# Altium footprint library SparkFun-RF.PCBLIB: 87 footprints (part 6 of 6)
Each footprint in its own frame and in the unit in brackets; x right, y up, seen from the top. Pads: shape width x height; smd on the part's side, far side on the other; paste and mask are expansions set on the pad; w line width, h text height; cw(c..) or ccw(c..) is an arc to the next point about the centre after c.
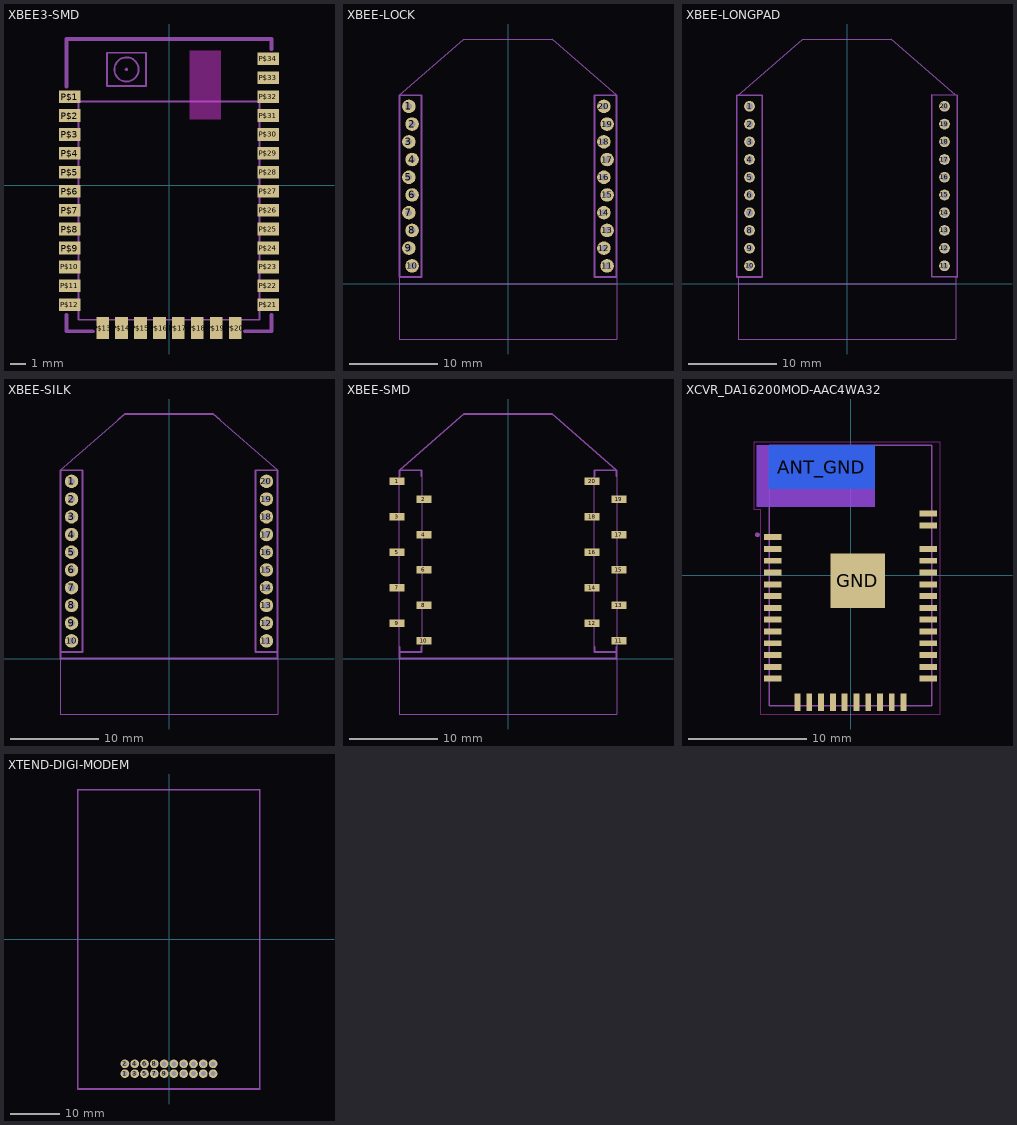
[diagram p5: the footprints below, top view; thin cyan lines are the x and y axes]

## XBEE3-SMD [mil]
pads (34):
  rect 57x33 smd paste+0: P$1(-258,230.2) P$2(-258,181) P$3(-258,131.8) P$4(-258,82.6) P$5(-258,33.4) P$6(-258,-15.8) P$7(-258,-65) P$8(-258,-114.2) P$9(-258,-163.4) P$10(-258,-212.6) P$11(-258,-261.8) P$12(-258,-311) P$21(258,-311) P$22(258,-261.8) P$23(258,-212.6) P$24(258,-163.4) P$25(258,-114.2) P$26(258,-65) P$27(258,-15.8) P$28(258,33.4) P$29(258,82.6) P$30(258,131.8) P$31(258,181) P$32(258,230.2) P$33(258,279.4) P$34(258,328.6)
  rect 33x57 smd paste+0: P$13(-172.5,-371.5) P$14(-123.3,-371.5) P$15(-74.1,-371.5) P$16(-24.9,-371.5) P$17(24.3,-371.5) P$18(73.5,-371.5) P$19(122.7,-371.5) P$20(171.9,-371.5)
Top:
  text "RF Test Points" at 105,180 h24.8
Top keep-out:
  region: 54.5,171.5 54.5,349.5 134.5,349.5 134.5,171.5
Top Paste:
  region: -285,217 -285,243.4 -236.63,243.4 -236.63,217
  region: -285,167.8 -285,194.2 -236.63,194.2 -236.63,167.8
  region: -285,118.6 -285,145 -236.63,145 -236.63,118.6
  region: -285,69.4 -285,95.8 -236.63,95.8 -236.63,69.4
  region: -285,20.2 -285,46.6 -236.63,46.6 -236.63,20.2
  region: -285,-29 -285,-2.6 -236.63,-2.6 -236.63,-29
  region: -285,-78.2 -285,-51.8 -236.63,-51.8 -236.63,-78.2
  region: -285,-127.4 -285,-101 -236.63,-101 -236.63,-127.4
  region: -285,-176.6 -285,-150.2 -236.63,-150.2 -236.63,-176.6
  region: -285,-225.8 -285,-199.4 -236.63,-199.4 -236.63,-225.8
  region: -285,-275 -285,-248.6 -236.63,-248.6 -236.63,-275
  region: -285,-324.2 -285,-297.8 -236.63,-297.8 -236.63,-324.2
  region: 233.81,315.4 233.81,341.8 282.19,341.8 282.19,315.4
  region: 233.81,266.2 233.81,292.6 282.19,292.6 282.19,266.2
  region: 233.81,217 233.81,243.4 282.19,243.4 282.19,217
  region: 233.81,167.8 233.81,194.2 282.19,194.2 282.19,167.8
  region: 233.81,118.6 233.81,145 282.19,145 282.19,118.6
  region: 233.81,69.4 233.81,95.8 282.19,95.8 282.19,69.4
  region: 233.81,20.2 233.81,46.6 282.19,46.6 282.19,20.2
  region: 233.81,-29 233.81,-2.6 282.19,-2.6 282.19,-29
  region: 233.81,-78.2 233.81,-51.8 282.19,-51.8 282.19,-78.2
  region: 233.81,-127.4 233.81,-101 282.19,-101 282.19,-127.4
  region: 233.81,-176.6 233.81,-150.2 282.19,-150.2 282.19,-176.6
  region: 233.81,-225.8 233.81,-199.4 282.19,-199.4 282.19,-225.8
  region: 233.81,-275 233.81,-248.6 282.19,-248.6 282.19,-275
  region: 233.81,-324.2 233.81,-297.8 282.19,-297.8 282.19,-324.2
  region: -185.7,-395.69 -185.7,-347.31 -159.3,-347.31 -159.3,-395.69
  region: -136.5,-395.69 -136.5,-347.31 -110.1,-347.31 -110.1,-395.69
  region: -87.3,-395.69 -87.3,-347.31 -60.9,-347.31 -60.9,-395.69
  region: -38.1,-395.69 -38.1,-347.31 -11.7,-347.31 -11.7,-395.69
  region: 11.1,-395.69 11.1,-347.31 37.5,-347.31 37.5,-395.69
  region: 60.3,-395.69 60.3,-347.31 86.7,-347.31 86.7,-395.69
  region: 109.5,-395.69 109.5,-347.31 135.9,-347.31 135.9,-395.69
  region: 158.7,-395.69 158.7,-347.31 185.1,-347.31 185.1,-395.69
tDocu:
  circle w5: c-110.59,300.83 r31.5
  region: -110.59,296.89 -111.37,296.89 -112.82,297.49 -113.93,298.6 -114.53,300.05 -114.53,300.83 -114.53,301.61 -113.93,303.06 -112.82,304.16 -111.37,304.76 -110.59,304.76 -109.81,304.76 -108.36,304.16 -107.25,303.06 -106.65,301.61 -106.65,300.83 -106.65,300.05 -107.25,298.6 -108.36,297.49 -109.81,296.89 -110.59,296.89
  lines w5: -235,-350 235,-350 235,218 -235,218 -235,-350 ; -161.18,257.32 -60,257.32 -60,344.33 -161.18,344.33 -161.18,257.32
tPlace:
  lines w10: -266.5,-337 -266.5,-380 -198,-380 ; -266.5,255.8 -266.5,380 266.5,380 266.5,354 ; 198,-380 266.5,-380 266.5,-337

## XBEE-LOCK [mil]
pads (20):
  round 60 hole 29: 1(-440.07,787.4) 2(-426.07,708.66) 3(-440.07,629.92) 4(-426.07,551.18) 5(-440.07,472.44) 6(-426.07,393.7) 7(-440.07,314.96) 8(-426.07,236.22) 9(-440.07,157.48) 10(-426.07,78.74) 11(440.07,78.74) 12(426.07,157.48) 13(440.07,236.22) 14(426.07,314.96) 15(440.07,393.7) 16(426.07,472.44) 17(440.07,551.18) 18(426.07,629.92) 19(440.07,708.66) 20(426.07,787.4)
tDocu:
  region: -437,68 -437,88 -429,88 -429,68
  region: -437,147 -437,167 -429,167 -429,147
  region: -437,225 -437,245 -429,245 -429,225
  region: -437,304 -437,324 -429,324 -429,304
  region: -437,383 -437,403 -429,403 -429,383
  region: -437,463 -437,483 -429,483 -429,463
  region: -437,541 -437,561 -429,561 -429,541
  region: -437,619 -437,639 -429,639 -429,619
  region: -437,698 -437,718 -429,718 -429,698
  region: -437,777 -437,797 -429,797 -429,777
  region: 429,68 429,88 437,88 437,68
  region: 429,147 429,167 437,167 437,147
  region: 429,225 429,245 437,245 437,225
  region: 429,304 429,324 437,324 437,304
  region: 429,383 429,403 437,403 437,383
  region: 429,463 429,483 437,483 437,463
  region: 429,541 429,561 437,561 437,541
  region: 429,619 429,639 437,639 437,619
  region: 429,698 429,718 437,718 437,698
  region: 429,777 429,797 437,797 437,777
  lines w5: -482.28,29.53 -482.28,0 ; -482.28,836.61 -196.85,1086.61 196.85,1086.61 482.28,836.61 ; 482.28,29.53 482.28,0 ; -482.28,0 482.28,0 ; -482.28,0 -482.28,-246.06 482.28,-246.06 482.28,0
tPlace:
  lines w8: -482.28,29.53 -482.28,836.61 -383.86,836.61 -383.86,29.53 -482.28,29.53 ; 383.86,29.53 482.28,29.53 482.28,836.61 383.86,836.61 383.86,29.53
  text "1" at -374.02,787.4 h34

## XBEE-LONGPAD [mil]
pads (20):
  round 47.5 hole 31.5: 1(-433.07,787.4) 2(-433.07,708.66) 3(-433.07,629.92) 4(-433.07,551.18) 5(-433.07,472.44) 6(-433.07,393.7) 7(-433.07,314.96) 8(-433.07,236.22) 9(-433.07,157.48) 10(-433.07,78.74) 11(433.07,78.74) 12(433.07,157.48) 13(433.07,236.22) 14(433.07,314.96) 15(433.07,393.7) 16(433.07,472.44) 17(433.07,551.18) 18(433.07,629.92) 19(433.07,708.66) 20(433.07,787.4)
tDocu:
  lines w5: -482.28,29.53 -482.28,0 ; -482.28,836.61 -196.85,1086.61 196.85,1086.61 482.28,836.61 ; 482.28,29.53 482.28,0 ; -482.28,0 482.28,0 ; -482.28,0 -482.28,-246.06 482.28,-246.06 482.28,0
tPlace:
  lines w8: -489.78,29.53 -489.78,836.61 -376.36,836.61 -376.36,29.53 -489.78,29.53 ; 376.36,32.03 489.78,29.53 489.78,836.61 376.36,839.11 376.36,32.03
  text "1" at -369.02,787.4 h34

## XBEE-SILK [mil]
pads (20):
  round 60 hole 31.5: 1(-433.07,787.4) 2(-433.07,708.66) 3(-433.07,629.92) 4(-433.07,551.18) 5(-433.07,472.44) 6(-433.07,393.7) 7(-433.07,314.96) 8(-433.07,236.22) 9(-433.07,157.48) 10(-433.07,78.74) 11(433.07,78.74) 12(433.07,157.48) 13(433.07,236.22) 14(433.07,314.96) 15(433.07,393.7) 16(433.07,472.44) 17(433.07,551.18) 18(433.07,629.92) 19(433.07,708.66) 20(433.07,787.4)
tDocu:
  lines w5: -482.28,0 -482.28,-246.06 482.28,-246.06 482.28,0 ; -482.28,836.61 -196.85,1086.61 196.85,1086.61 482.28,836.61
tPlace:
  lines w8: -224.41,1062.99 -196.85,1086.61 196.85,1086.61 224.41,1062.99 ; -482.28,29.53 -482.28,836.61 -383.86,836.61 -383.86,29.53 -482.28,29.53 ; -482.28,29.53 -482.28,0 482.28,0 482.28,29.53 ; 482.28,29.53 482.28,836.61 383.86,836.61 383.86,29.53 482.28,29.53
  text "1" at -374.02,787.4 h34

## XBEE-SMD [mm]
pads (20):
  rect 1.7x0.85 smd: 1(-12.5,20) 2(-9.5,18) 3(-12.5,16) 4(-9.5,14) 5(-12.5,12) 6(-9.5,10) 7(-12.5,8) 8(-9.5,6) 9(-12.5,4) 10(-9.5,2) 11(12.5,2) 12(9.5,4) 13(12.5,6) 14(9.5,8) 15(12.5,10) 16(9.5,12) 17(12.5,14) 18(9.5,16) 19(12.5,18) 20(9.5,20)
tDocu:
  lines w0.127: -12.25,0 -12.25,-6.25 12.25,-6.25 12.25,0 ; -12.25,0.75 -12.25,21.25 -9.75,21.25 -9.75,0.75 -12.25,0.75 ; 9.75,0.75 9.75,21.25 12.25,21.25 12.25,0.75 9.75,0.75
tPlace:
  lines w0.203: -12.25,1.3 -12.25,0.75 ; -12.25,20.6 -12.25,21.25 ; -9.75,1.3 -9.75,0.75 -12.25,0.75 ; -9.75,20.6 -9.75,21.25 -12.25,21.25 ; 9.75,1.3 9.75,0.75 12.25,0.75 ; 9.75,20.6 9.75,21.25 12.25,21.25 ; 12.25,1.3 12.25,0.75 ; 12.25,20.6 12.25,21.25 ; -12.25,0.75 -12.25,0 12.25,0 12.25,0.75 ; -12.25,21.25 -5,27.6 5,27.6 12.25,21.25
  text "1" at -9.5,20 h0.86

## XCVR_DA16200MOD-AAC4WA32 [mm]
pads (39):
  rect 1.5x0.5 smd: 1(-6.6,3.25) 2(-6.6,2.25) 3(-6.6,1.25) 4(-6.6,0.25) 5(-6.6,-0.75) 6(-6.6,-1.75) 7(-6.6,-2.75) 8(-6.6,-3.75) 9(-6.6,-4.75) 10(-6.6,-5.75) 11(-6.6,-6.75) 12(-6.6,-7.75) 13(-6.6,-8.75) 24(6.6,-8.75) 25(6.6,-7.75) 26(6.6,-6.75) 27(6.6,-5.75) 28(6.6,-4.75) 29(6.6,-3.75) 30(6.6,-2.75) 31(6.6,-1.75) 32(6.6,-0.75) 33(6.6,0.25) 34(6.6,1.25) 35(6.6,2.25) 36(6.6,4.25) 37(6.6,5.25)
  rect 0.5x1.5 smd: 14(-4.5,-10.75) 15(-3.5,-10.75) 16(-2.5,-10.75) 17(-1.5,-10.75) 18(-0.5,-10.75) 19(0.5,-10.75) 20(1.5,-10.75) 21(2.5,-10.75) 22(3.5,-10.75) 23(4.5,-10.75)
  rect 9x3.7 smd far side paste+0 mask+0: ANT_GND(-2.45,9.2)
  rect 4.6x4.6 smd paste+0: GND(0.61,-0.45)
Top keep-out:
  region: -7.95,5.85 -7.95,11.05 2.05,11.05 2.05,5.85
  region: -7.95,5.85 -7.95,11.05 2.05,11.05 2.05,5.85
  lines w0.05: -8.2,5.6 -8.2,11.3 7.6,11.3 7.6,-11.75 -7.6,-11.75 -7.6,5.6 -8.2,5.6
Bottom keep-out:
  region: 2.05,5.85 -7.95,5.85 -7.95,11.05 -6.95,11.05 -6.95,7.35 2.05,7.35
Top Paste:
  region: -0.845,-1.904 -0.845,1.005 2.065,1.005 2.065,-1.904
tDocu:
  circle w0.2: c-7.9,3.45 r0.1
  lines w0.127: -6.9,-11.05 6.9,-11.05 6.9,11.05 -6.9,11.05 -6.9,-11.05
tPlace:
  circle w0.2: c-7.9,3.45 r0.1
  lines w0.127: -6.9,-9.45 -6.9,-11.05 -5.2,-11.05 ; -6.9,6.25 -6.9,11.05 6.9,11.05 6.9,6.25 ; 5.2,-11.05 6.9,-11.05 6.9,-9.45

## XTEND-DIGI-MODEM [mil]
pads (20):
  round 70 hole 40: 1(-354.33,-1082.68) 2(-354.33,-1003.94) 3(-275.59,-1082.68) 4(-275.59,-1003.94) 5(-196.85,-1082.68) 6(-196.85,-1003.94) 7(-118.11,-1082.68) 8(-118.11,-1003.94) 9(-39.37,-1082.68) 10(-39.37,-1003.94) 11(39.37,-1082.68) 12(39.37,-1003.94) 13(118.11,-1082.68) 14(118.11,-1003.94) 15(196.85,-1082.68) 16(196.85,-1003.94) 17(275.59,-1082.68) 18(275.59,-1003.94) 19(354.33,-1082.68) 20(354.33,-1003.94)
tDocu:
  lines w5: -728.35,-1200.79 -728.35,1200.79 728.35,1200.79 728.35,-1200.79 -728.35,-1200.79
tPlace:
  lines w8: -733.35,-1205.79 -733.35,1205.79 733.35,1205.79 733.35,-1205.79 -733.35,-1205.79
  text "1" at -350.39,-1129.92 h34